# EAGLE library part BQ27411-G1 (library CharIoT)
New Fuel Gauge
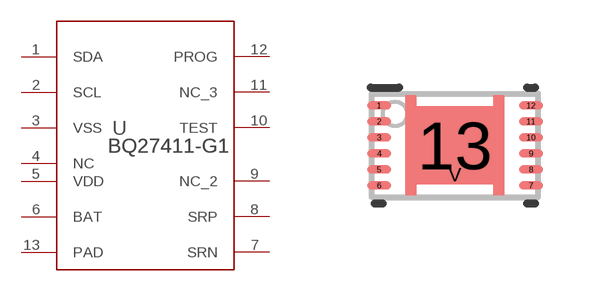
[diagram p7: symbol with the pads of DRZ0012A; footprint DRZ0012A]

Designator prefix -

## BQ27411-G1  [DRZ0012A]
1  SDA
2  SCL
3  VSS  pwr
4  NC  pas
5  VDD  pwr
6  BAT  pwr
7  SRN
8  SRP
9  NC_2  pas
10  TEST  in
11  NC_3  pas
12  PROG  out
13  PAD  pas

## Footprint DRZ0012A (pad centres in mm)
smd 0.6 x 0.2: 1 -1.9,1; 2 -1.9,0.6; 3 -1.9,0.2; 4 -1.9,-0.2; 5 -1.9,-0.6; 6 -1.9,-1; 7 1.9,-1; 8 1.9,-0.6; 9 1.9,-0.2; 10 1.9,0.2; 11 1.9,0.6; 12 1.9,1
smd 2.45 x 1.95: 13 0,0
smd 0.5 x 0.5: V 0,-0.725